# Altium schematic symbol library ARCOM_Inductors.SchLib: 129 symbols (part 2 of 2)
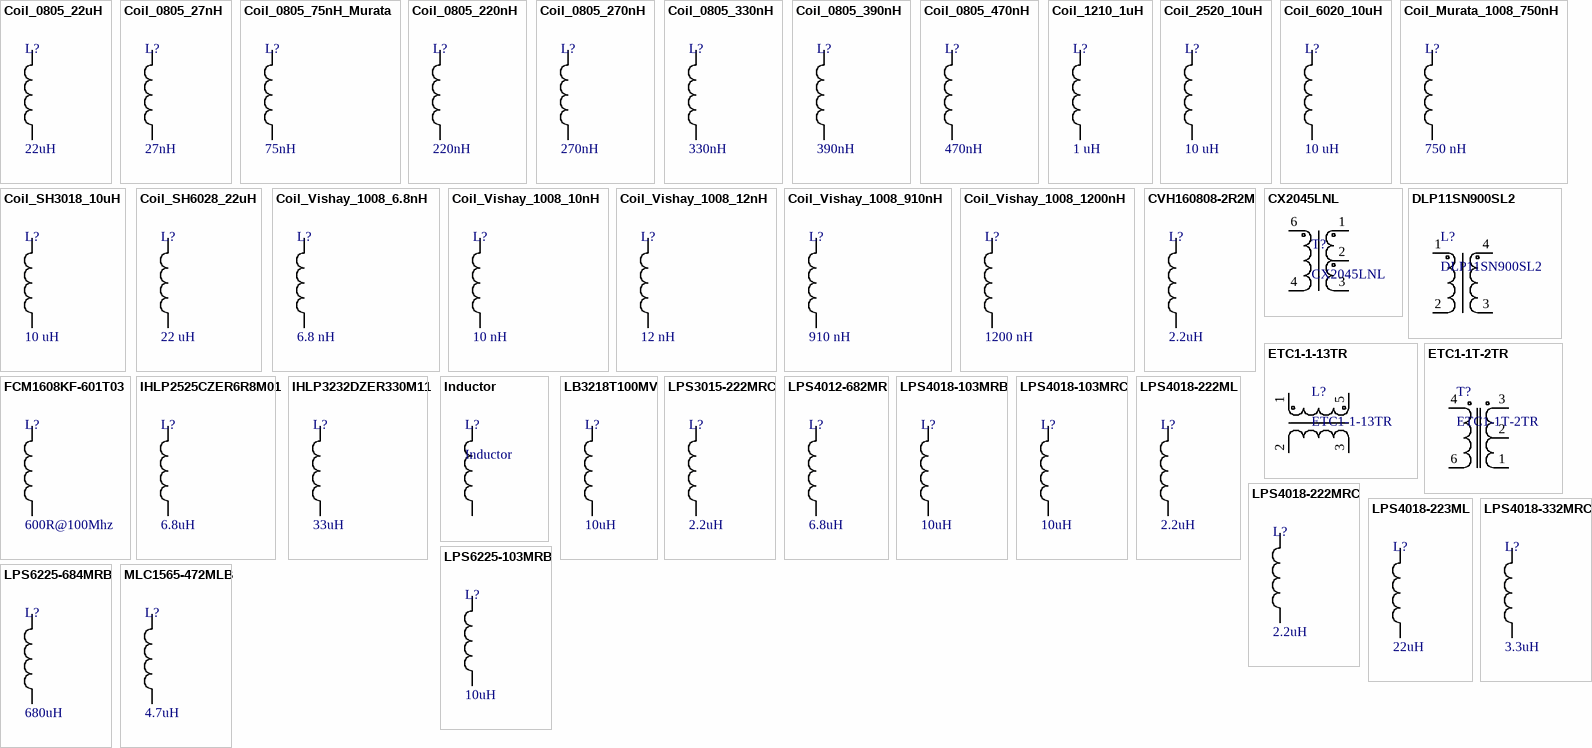
[diagram p4: symbols Coil_0805_22uH to MLC1565-472MLB]

## Coil_0805_220nH
designator L?  value 220nH  (hidden comment: Coil_0805_220nH)
0805 series Chip Inductor 2%; Manufacturer: Johanson Dielectric; Manufacturer P/N: L-15WR22GV4E; Part: 220 nH, 2%tol.; ComponentLink1Description: Manufacturer; ComponentLink2Description: Datasheet; Family: Inductors&Transformers
footprint RESC0805(2012)_L (Chip Resistor, Body 2.0x1.3mm, IPC High Density)
footprint RESC0805(2012)_M (Chip Resistor, Body 2.0x1.3mm, IPC Low Density)
footprint RESC0805(2012)_N (Chip Resistor, Body 2.0x1.3mm, IPC Medium Density)
pins: 1, 2

## Coil_0805_270nH
designator L?  value 270nH  (hidden comment: Coil_0805_270nH)
0805 series Chip Inductor 2%; Manufacturer: Johanson Dielectric; Manufacturer P/N: L-15WR27GV4E; Part: 270 nH, 2%tol.; ComponentLink1Description: Manufacturer; ComponentLink2Description: Datasheet; Family: Inductors&Transformers
footprint RESC0805(2012)_L (Chip Resistor, Body 2.0x1.3mm, IPC High Density)
footprint RESC0805(2012)_M (Chip Resistor, Body 2.0x1.3mm, IPC Low Density)
footprint RESC0805(2012)_N (Chip Resistor, Body 2.0x1.3mm, IPC Medium Density)
pins: 1, 2

## Coil_0805_330nH
designator L?  value 330nH  (hidden comment: Coil_0805_330nH)
0805 series Chip Inductor 2%; Manufacturer: Johanson Dielectric; Manufacturer P/N: L-15WR33GV4E; Part: 330 nH, 2%tol.; ComponentLink1Description: Manufacturer; ComponentLink2Description: Datasheet; Family: Inductors&Transformers
footprint RESC0805(2012)_L (Chip Resistor, Body 2.0x1.3mm, IPC High Density)
footprint RESC0805(2012)_M (Chip Resistor, Body 2.0x1.3mm, IPC Low Density)
footprint RESC0805(2012)_N (Chip Resistor, Body 2.0x1.3mm, IPC Medium Density)
pins: 1, 2

## Coil_0805_390nH
designator L?  value 390nH  (hidden comment: Coil_0805_390nH)
0805 series Chip Inductor 2%; Manufacturer: Johanson Dielectric; Manufacturer P/N: L-15WR39GV4E; Part: 390 nH, 2%tol.; ComponentLink1Description: Manufacturer; ComponentLink2Description: Datasheet; Family: Inductors&Transformers
footprint RESC0805(2012)_L (Chip Resistor, Body 2.0x1.3mm, IPC High Density)
footprint RESC0805(2012)_M (Chip Resistor, Body 2.0x1.3mm, IPC Low Density)
footprint RESC0805(2012)_N (Chip Resistor, Body 2.0x1.3mm, IPC Medium Density)
pins: 1, 2

## Coil_0805_470nH
designator L?  value 470nH  (hidden comment: Coil_0805_470nH)
0805CS series Chip Inductor; Manufacturer: Coilcraft Inc.; Manufacturer P/N: 0805CS-471XGB; Part: 470 nH, 2%tol.; ComponentLink1Description: Manufacturer; ComponentLink1URL: http://www.coilcraft.com; ComponentLink2Description: Datasheet; ComponentLink2URL: http://www.coilcraft.com/pdfs/0805cs.pdf; Family: Inductors&Transformers
footprint RESC0805(2012)_L (Chip Resistor, Body 2.0x1.3mm, IPC High Density)
footprint RESC0805(2012)_M (Chip Resistor, Body 2.0x1.3mm, IPC Low Density)
footprint RESC0805(2012)_N (Chip Resistor, Body 2.0x1.3mm, IPC Medium Density)
pins: 1, 2

## Coil_1210_1uH
designator L?  value 1 uH  (hidden comment: Coil_1210_1uH)
L-DWI Series Chip Inductor; Manufacturer: Kemet; Manufacturer P/N: L1210R1R0MDWIT; Part: 10 uH, 5%tol.; ComponentLink1Description: Manufacturer; ComponentLink2Description: Datasheet; ComponentLink2URL: http://www.mouser.com/ds/2/212/F3115-532756.pdf; Family: Inductors&Transformers
footprint 1210(metric 3225)
pins: 1, 2

## Coil_2520_10uH
designator L?  value 10 uH  (hidden comment: Coil_2520_10uH)
2520LS series Chip Inductor; Manufacturer: Coilcraft Inc.; Manufacturer P/N: 1008LS-103XJL; Part: 10 uH, 5%tol.; ComponentLink1Description: Manufacturer; ComponentLink1URL: http://www.coilcraft.com; ComponentLink2Description: Datasheet; ComponentLink2URL: http://www.coilcraft.com/pdfs/1008ls.pdf; Family: Inductors&Transformers
footprint coilcraft_2520
pins: 1, 2

## Coil_6020_10uH
designator L?  value 10 uH  (hidden comment: Coil_6020_10uH)
SMD Power Inductors (NR series S type); Manufacturer: Taiyo Yuden; Manufacturer P/N: NRS6020T100MMGG; Part: 10 uH, 20%tol.; .Checked: 20180221; ComponentLink1Description: Manufacturer; ComponentLink1URL: https://www.yuden.co.jp/or/; ComponentLink2Description: Datasheet; ComponentLink2URL: http://ds.yuden.co.jp/TYCOMPAS/or/detail.do?productNo=NRS6020T100MMGG&dataUnit=M; Family: Inductors&Transformers
footprint NRS6020
pins: 1, 2

## Coil_Murata_1008_750nH
designator L?  value 750 nH  (hidden comment: Coil_Murata_1008_750nH)
1008 High Frequency Surface Mount Inductor; Manufacturer: Murata; Manufacturer P/N: LQW2UASR75G00L; Part: 750 nH, 5%tol.; ComponentLink1Description: Manufacturer; ComponentLink2Description: Datasheet; Family: Inductors&Transformers
footprint coilcraft_2520
pins: 1, 2

## Coil_SH3018_10uH
designator L?  value 10 uH  (hidden comment: Coil_SH3018_10uH)
SH3018 series inductor; Manufacturer: ABC TAIWAN ELECTRONICS CORP.; Manufacturer P/N: SH3018-100YLB; Part: 10 uH, 30%tol.; ComponentLink1Description: Manufacturer; ComponentLink1URL: https://www.atec-group.com/en; ComponentLink2Description: Datasheet; ComponentLink2URL: https://www.endrich.com/sixcms/media.php/2/SH3018-L.575750.pdf; Family: Inductors&Transformers
footprint SH3018
pins: 1, 2

## Coil_SH6028_22uH
designator L?  value 22 uH  (hidden comment: Coil_SH6028_22uH)
SH6028 series inductor; Manufacturer: ABC TAIWAN ELECTRONICS CORP.; Manufacturer P/N: SH6028-220YLB; Part: 22 uH, 30%tol.; ComponentLink1Description: Manufacturer; ComponentLink1URL: https://www.atec-group.com/en; ComponentLink2Description: Datasheet; ComponentLink2URL: https://www.endrich.com/sixcms/media.php/2/SH6028-L.575796.pdf; Family: Inductors&Transformers
footprint SH6028
pins: 1, 2

## Coil_Vishay_1008_6.8nH
designator L?  value 6.8 nH  (hidden comment: Coil_Vishay_1008_6.8nH)
1008 High Frequency Surface Mount Inductor; Manufacturer: Vishay/Dale; Manufacturer P/N: IMC1008ER6N8J; Part: 6.8 nH, 5%tol.; ComponentLink1Description: Manufacturer; ComponentLink2Description: Datasheet; Family: Inductors&Transformers
footprint coilcraft_2520
pins: 1, 2

## Coil_Vishay_1008_10nH
designator L?  value 10 nH  (hidden comment: Coil_Vishay_1008_10nH)
1008 High Frequency Surface Mount Inductor; Manufacturer: Vishay/Dale; Manufacturer P/N: IMC1008ER10NJ; Part: 10 nH, 5%tol.; ComponentLink1Description: Manufacturer; ComponentLink2Description: Datasheet; Family: Inductors&Transformers
footprint coilcraft_2520
pins: 1, 2

## Coil_Vishay_1008_12nH
designator L?  value 12 nH  (hidden comment: Coil_Vishay_1008_12nH)
1008 High Frequency Surface Mount Inductor; Manufacturer: Vishay/Dale; Manufacturer P/N: IMC1008ER12NJ; Part: 12 nH, 5%tol.; ComponentLink1Description: Manufacturer; ComponentLink2Description: Datasheet; Family: Inductors&Transformers
footprint coilcraft_2520
pins: 1, 2

## Coil_Vishay_1008_910nH
designator L?  value 910 nH  (hidden comment: Coil_Vishay_1008_910nH)
1008 High Frequency Surface Mount Inductor; Manufacturer: Vishay/Dale; Manufacturer P/N: IMC1008ERR91J; Part: 910 nH, 5%tol.; ComponentLink1Description: Manufacturer; ComponentLink2Description: Datasheet; Family: Inductors&Transformers
footprint coilcraft_2520
pins: 1, 2

## Coil_Vishay_1008_1200nH
designator L?  value 1200 nH  (hidden comment: Coil_Vishay_1008_1200nH)
1008 High Frequency Surface Mount Inductor; Manufacturer: Vishay/Dale; Manufacturer P/N: IMC1008ER1R2J; Part: 1200 nH, 5%tol.; ComponentLink1Description: Manufacturer; ComponentLink2Description: Datasheet; Family: Inductors&Transformers
footprint coilcraft_2520
pins: 1, 2

## CVH160808-2R2M
designator L?  value 2.2uH  (hidden comment: CVH160808-2R2M)
Power Chip Inductor; Manufacturer: Bourns; Part: 2.2uH, 20% tol.; ComponentLink1Description: Manufacturer; ComponentLink1URL: https://www.bourns.com; ComponentLink2Description: Datasheet; ComponentLink2URL: https://www.mouser.de/datasheet/2/54/bourns_05142019_CVH160808_datasheet-1594375.pdf; Manufacturer P/N: CVH160808-2R2M; Family: Inductors&Transformers
pins: 1, 2

## CX2045LNL
designator T?
TRANSFORMER BALUN RF3-300MHZ SMD; Manufacturer: Pulse Engineering inc.; ComponentLink1Description: Manufacturer; ComponentLink1URL: http://www.pulseelectronics.com; ComponentLink2Description: Datasheet; ComponentLink2URL: http://productfinder.pulseeng.com/products/datasheets/C203.pdf; Manufacturer P/N: CX2045LNL; Part: CX2045LNL; Family: Inductors&Transformers
footprint CX2045
pins: 1, 2, 3, 4, 6

## DLP11SN900SL2
designator L?
Chip Common Mode Choke Coil; ComponentLink1Description: *; ComponentLink1URL: *; ComponentLink2Description: *; ComponentLink2URL: *; Family: Inductors&Transformers; Manufacturer: *; Manufacturer P/N: *; Part: *
footprint DLP11
pins: 1, 2, 3, 4

## ETC1-1-13TR
designator L?
E-series Transformer, RF 1:1 Transmission Line 4.5-3000MHz; Manufacturer: Macom; ComponentLink1Description: *; ComponentLink1URL: *; ComponentLink2Description: *; ComponentLink2URL: *; Family: Inductors&Transformers; Manufacturer P/N: ETC1-1-13TR; Part: ETC1-1-13TR
pins: 1, 2, 3, 5

## ETC1-1T-2TR
designator T?
E-series Transformer, RF 1:1 Transmission Line 0.1-200MHz; Manufacturer: Macom; ComponentLink1Description: Manufacturer; ComponentLink1URL: macom.com/; ComponentLink2Description: Datasheet; ComponentLink2URL: https://cdn.macom.com/datasheets/ETC1-1T-2TR.pdf; Family: Inductors&Transformers; Manufacturer P/N: ETC1-1T-2TR; Part: ETC1-1T-2TR
footprint SM-22
pins: 1, 2, 3, 4, 6

## FCM1608KF-601T03
designator L?  value 600R@100Mhz  (hidden comment: FCM1608KF-601T03)
FCM1608 series; Manufacturer: TAI-TECH Advanced Electronics(s) PTE LTD; Famly: Inductors&Transformers; ComponentLink1Description: Manufacturer; ComponentLink2Description: Datasheet; ComponentLink2URL: http://file1.dzsc.com/product/14/05/23/292688_111025078.pdf; Manufacturer P/N: FCM1608KF-601T03; Part: FCM1608KF-601T03
footprint RESC0603(1608)_L (Chip Resistor, Body 1.6x0.8mm, IPC High Density)
footprint RESC0603(1608)_M (Chip Resistor, Body 1.6x0.8mm, IPC Low Density)
footprint RESC0603(1608)_N (Chip Resistor, Body 1.6x0.8mm, IPC Medium Density)
pins: 1, 2

## IHLP2525CZER6R8M01
designator L?  value 6.8uH  (hidden comment: IHLP2525CZER6R8M01)
Low Profile, High Current IHLP® Inductors; Manufacturer: Vishay; Part: 6.8uH, 20%tol.; Famly: Inductors&Transformers; ComponentLink1Description: Manufacturer; ComponentLink2Description: Datasheet; Manufacturer P/N: IHLP2525CZER6R8M01
footprint IHLP2525
pins: 1, 2

## IHLP3232DZER330M11
designator L?  value 33uH  (hidden comment: IHLP3232DZER330M11)
Low Profile, High Current IHLP® Inductors; Manufacturer: Vishay; Part: 33uH, 20%tol.; Famly: Inductors&Transformers; ComponentLink1Description: Manufacturer; ComponentLink2Description: Datasheet; Manufacturer P/N: IHLP3232DZER330M11
footprint IHLP3232DZ
pins: 1, 2

## Inductor
designator L?
ComponentLink1Description: *; ComponentLink1URL: *; ComponentLink2Description: *; ComponentLink2URL: *; Manufacturer: *; Manufacturer P/N: *; Part: *; Value: *; Family: Inductors&Transformers
pins: 1, 2

## LB3218T100MV
designator L?  value 10uH  (hidden comment: LB3218T100MV)
Chip Inductor; Manufacturer: Taiyo Yuden; Part: 10uH, 20%tol.; ComponentLink1Description: Manufacturer; ComponentLink1URL: https://www.yuden.co.jp/or/; ComponentLink2Description: Datasheet; ComponentLink2URL: https://www2.mouser.com/datasheet/2/396/wound01_e-1509533.pdf; Manufacturer P/N: LB3218T100MV; Family: Inductors&Transformers
footprint LB3218
pins: 1, 2

## LPS3015-222MRC
designator L?  value 2.2uH  (hidden comment: LPS3015-222MRC)
Chip Inductor; Manufacturer: Coilcraft; Part: 2.2uH, 20%tol.; ComponentLink1Description: Manufacturer; ComponentLink1URL: http://www.coilcraft.com; ComponentLink2Description: Datasheet; ComponentLink2URL: https://www.mouser.de/datasheet/2/597/lps3015-270734.pdf; Manufacturer P/N: LPS3015-222MRC; Family: Inductors&Transformers
footprint LPS3015
pins: 1, 2

## LPS4012-682MR
designator L?  value 6.8uH  (hidden comment: LPS4012-682MR)
Chip Inductor; Manufacturer: Coilcraft; Part: 6.8uH, 20%tol.; ComponentLink1Description: Manufacturer; ComponentLink1URL: http://www.coilcraft.com; ComponentLink2Description: Datasheet; ComponentLink2URL: http://www.coilcraft.com/pdfs/lps4018.pdf; Manufacturer P/N: LPS4012-682MR; Family: Inductors&Transformers
footprint LPS4012
pins: 1, 2

## LPS4018-103MRB
designator L?  value 10uH  (hidden comment: LPS4018-103MRB)
Part Number Change!; Manufacturer: Coilcraft; Part: 10uH, 20%tol.; ComponentLink1Description: Manufacturer; ComponentLink1URL: http://www.coilcraft.com; ComponentLink2Description: Datasheet; ComponentLink2URL: http://www.coilcraft.com/pdfs/lps4018.pdf; Manufacturer P/N: LPS4018-103MRB; Family: Inductors&Transformers
footprint LPS4018
footprint LPS4018_new
pins: 1, 2

## LPS4018-103MRC
designator L?  value 10uH  (hidden comment: LPS4018-103MRC)
Chip Inductor; Manufacturer: Coilcraft; Part: 10uH, 20%tol.; ComponentLink1Description: Manufacturer; ComponentLink1URL: http://www.coilcraft.com; ComponentLink2Description: Datasheet; ComponentLink2URL: http://www.coilcraft.com/pdfs/lps4018.pdf; Manufacturer P/N: LPS4018-103MRC; Family: Inductors&Transformers
footprint LPS4018
footprint LPS4018_new
pins: 1, 2

## LPS4018-222ML
designator L?  value 2.2uH  (hidden comment: LPS4018-222ML)
Obsolete!; Manufacturer: Coilcraft; Part: 2.2uH, 20%tol.; ComponentLink1Description: Manufacturer; ComponentLink1URL: http://www.coilcraft.com; ComponentLink2Description: Datasheet; ComponentLink2URL: http://www.coilcraft.com/pdfs/lps4018.pdf; Manufacturer P/N: LPS4018-222ML; Family: Inductors&Transformers
footprint LPS4018
footprint LPS4018_new
pins: 1, 2

## LPS4018-222MRC
designator L?  value 2.2uH  (hidden comment: LPS4018-222MRC)
Chip Inductor; Manufacturer: Coilcraft; Part: 2.2uH, 20%tol.; ComponentLink1Description: Manufacturer; ComponentLink1URL: http://www.coilcraft.com; ComponentLink2Description: Datasheet; ComponentLink2URL: http://www.coilcraft.com/pdfs/lps4018.pdf; Manufacturer P/N: LPS4018-222MRC; Family: Inductors&Transformers
footprint LPS4018
footprint LPS4018_new
pins: 1, 2

## LPS4018-223ML
designator L?  value 22uH  (hidden comment: LPS4018-223ML)
Obsolete!; Manufacturer: Coilcraft; Part: 22uH, 20%tol.; ComponentLink1Description: Manufacturer; ComponentLink1URL: http://www.coilcraft.com; ComponentLink2Description: Datasheet; ComponentLink2URL: http://www.coilcraft.com/pdfs/lps4018.pdf; Manufacturer P/N: LPS4018-223ML; Family: Inductors&Transformers
footprint LPS4018
footprint LPS4018_new
pins: 1, 2

## LPS4018-332MRC
designator L?  value 3.3uH  (hidden comment: LPS4018-332MRC)
Chip Inductor; Manufacturer: Coilcraft; Part: 3.3uH, 20%tol.; ComponentLink1Description: Manufacturer; ComponentLink1URL: http://www.coilcraft.com; ComponentLink2Description: Datasheet; ComponentLink2URL: http://www.coilcraft.com/pdfs/lps4018.pdf; Manufacturer P/N: LPS4018-332MRC; Family: Inductors&Transformers
footprint LPS4018_new
pins: 1, 2

## LPS6225-103MRB
designator L?  value 10uH  (hidden comment: LPS6225-103MRB)
LPS6225 series Chip Inductor; Manufacturer: Coilcraft; Part: 10uH, 20%tol.; ComponentLink1Description: Manufacturer; ComponentLink1URL: http://www.coilcraft.com; ComponentLink2Description: Datasheet; Manufacturer P/N: LPS6225-103MRB; Family: Inductors&Transformers
pins: 1, 2

## LPS6225-684MRB
designator L?  value 680uH  (hidden comment: LPS6225-684MRB)
LPS6225 series Chip Inductor; Manufacturer: Coilcraft; Part: 680uH, 20%tol.; ComponentLink1Description: Manufacturer; ComponentLink1URL: http://www.coilcraft.com; ComponentLink2Description: Datasheet; Manufacturer P/N: LPS6225-684MRB; Family: Inductors&Transformers
footprint LPS6225
pins: 1, 2

## MLC1565-472MLB
designator L?  value 4.7uH  (hidden comment: MLC1565-472MLB)
MLC1565 inductor, 4.7uH; Manufacturer: Coilcraft; Part: 4.7uH, 20%tol.; ComponentLink1Description: Manufacturer; ComponentLink1URL: http://www.coilcraft.com; ComponentLink2Description: Datasheet; Manufacturer P/N: MLC1565-472MLB; Family: Inductors&Transformers
footprint MLC1565 SERIES (Coilcraft Shielded Power Inductors)
pins: 1, 2

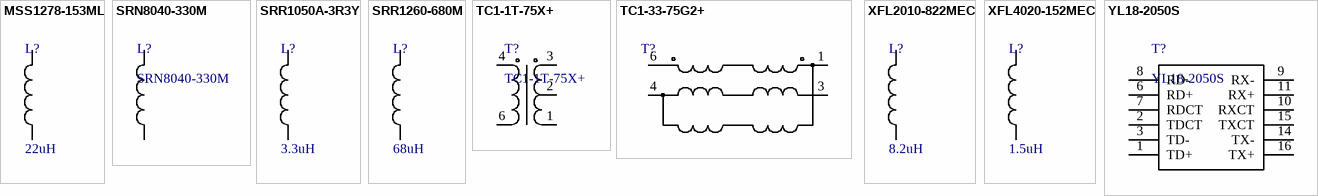
[diagram p3: symbols MSS1278-153ML to YL18-2050S]

## MSS1278-153ML
designator L?  value 22uH  (hidden comment: MSS1278-153ML)
MSS1278 inductor; Manufacturer: Coilcraft; Part: 22uH, 20%tol.; ComponentLink1Description: Manufacturer; ComponentLink1URL: http://www.coilcraft.com; ComponentLink2Description: Datasheet; Manufacturer P/N: MSS1278-153ML; Family: Inductors&Transformers
footprint MSS1278
pins: 1, 2

## SRN8040-330M
designator L?
SRN8040 inductor; Manufacturer: Bourns; ComponentLink1Description: *; ComponentLink1URL: *; ComponentLink2Description: *; ComponentLink2URL: *; Family: Inductors&Transformers; Manufacturer P/N: SRN8040-330M; Part: SRN8040-330M
footprint SRN8040
pins: 1, 2

## SRR1050A-3R3Y
designator L?  value 3.3uH  (hidden comment: SRR1050A-3R3Y)
SRR1050 series Chip Inductor; Manufacturer: Bourns; Part: 3.3uH, 30%tol.; ComponentLink1Description: Manufacturer; ComponentLink2Description: Datasheet; Manufacturer P/N: SRR1050A-3R3Y; Family: Inductors&Transformers
footprint SRR1050
pins: 1, 2

## SRR1260-680M
designator L?  value 68uH  (hidden comment: SRR1260-680M)
SRR1260 series Chip Inductor; Part: 68uH, 30%tol.; ComponentLink1Description: Manufacturer; ComponentLink2Description: Datasheet; Manufacturer P/N: SRR1260-680M; Family: Inductors&Transformers
footprint SRR1260
pins: 1, 2

## TC1-1T-75X+
designator T?
RF Transformer 5 to 120 MHz 75 Ohm; Manufacturer: Mini-Circuits; ComponentLink1Description: *; ComponentLink1URL: *; ComponentLink2Description: *; ComponentLink2URL: *; Family: Inductors&Transformers; Manufacturer P/N: TC1-1T-75X+; Part: TC1-1T-75X+
footprint AT1521
pins: 1, 2, 3, 4, 6

## TC1-33-75G2+
designator T?  (value not drawn)
RF Transformer; Manufacturer: Mini-Circuits; ComponentLink1Description: Manufacturer; ComponentLink1URL: http://www.minicircuits.com; ComponentLink2Description: Datasheet; ComponentLink2URL: https://www.minicircuits.com/pdfs/TC1-33-75G2+.pdf; Manufacturer P/N: TC1-33-75G2+; Part: TC1-33-75G2+; Family: Inductors&Transformers
footprint TC1-33
pins: 1, 3, 4, 6

## XFL2010-822MEC
designator L?  value 8.2uH  (hidden comment: XFL2010-822MEC)
XFL2010 series Chip Inductor; Manufacturer: Coilcraft; Part: 8.2uH, 20% tol.; ComponentLink1Description: Manufacturer; ComponentLink1URL: http://www.coilcraft.com; ComponentLink2Description: Datasheet; Manufacturer P/N: XFL2010-822MEC; Family: Inductors&Transformers
footprint XFL2010
pins: 1, 2

## XFL4020-152MEC
designator L?  value 1.5uH  (hidden comment: XFL4020-152MEC)
XFL4020 series Chip Inductor; Manufacturer: Coilcraft; Part: 1.5uH, 20% tol.; ComponentLink1Description: Manufacturer; ComponentLink1URL: http://www.coilcraft.com; ComponentLink2Description: Datasheet; Manufacturer P/N: XFL4020-152MEC; Family: Inductors&Transformers
footprint XFL4020
pins: 1, 2

## YL18-2050S
designator T?
10/100 BASE-T PULSE TRANSFORMERS
pins: 1 TD+, 2 TDCT, 3 TD-, 6 RD+, 7 RDCT, 8 RD-, 9 RX-, 10 RXCT, 11 RX+, 14 TX-, 15 TXCT, 16 TX+